# EAGLE library part IRS2186 (library manualControl)
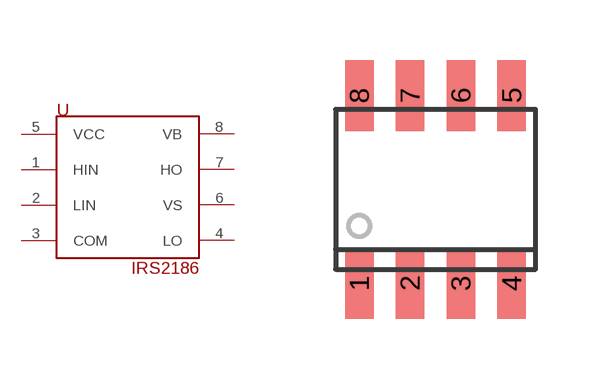
[diagram p16: symbol with the pads of SOIC-8; footprint SOIC-8]

Designator prefix U

## IRS2186S  [SOIC-8]
1  HIN  in
2  LIN  in
3  COM  pwr
4  LO  out
5  VCC  pwr
6  VS
7  HO  out
8  VB

## Footprint SOIC-8 (pad centres in mm)
smd 0.711 x 1.778: 1 -1.905,-2.349; 2 -0.635,-2.349; 3 0.635,-2.349; 4 1.905,-2.349; 5 1.905,2.349; 6 0.635,2.349; 7 -0.635,2.349; 8 -1.905,2.349